# EAGLE library part TLC272 (library C3-Ti)
TLC272 Dual Precision OPAMP
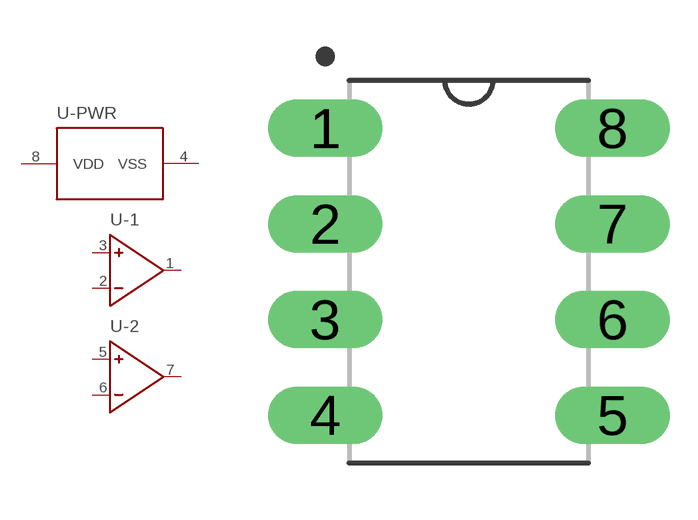
[diagram p12: symbol with the pads of PDIP-8; footprint PDIP-8]

Designator prefix U; gates -PWR=VCC -1=OPAMP -2=OPAMP

## TLC272ACP  [PDIP-8]
1  -1:OUT  in
2  -1:IN-  in
3  -1:IN+  in
4  -PWR:VSS  in
5  -2:IN+  in
6  -2:IN-  in
7  -2:OUT  in
8  -PWR:VDD  in

## Footprint PDIP-8 (pad centres in mm)
drill 1.016 long: 1 -3.81,3.81; 2 -3.81,1.27; 3 -3.81,-1.27; 4 -3.81,-3.81; 5 3.81,-3.81; 6 3.81,-1.27; 7 3.81,1.27; 8 3.81,3.81